# Altium schematic symbol library Schlib1.SchLib: 10 symbols
Pins are listed as number, name and electrical type; pins without a type are passive.

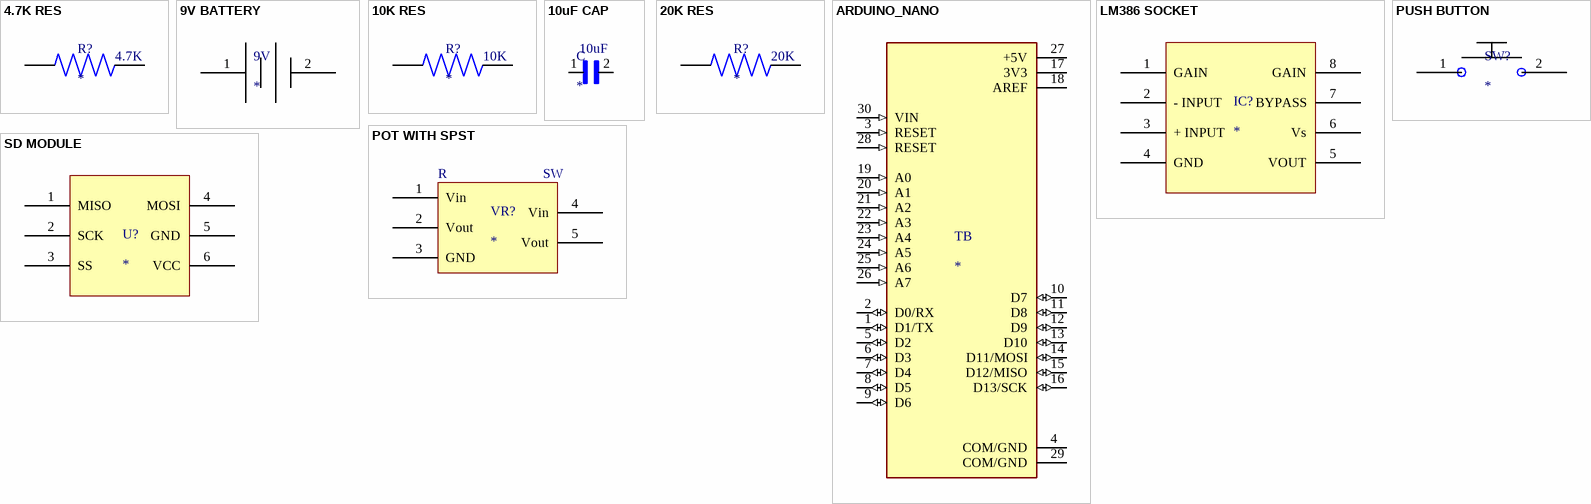
[diagram p0: symbols 4.7K RES to SD MODULE]

## 4.7K RES
designator R?
MP: RMCF1206FT4K70; Package: None; Price: None; Value: *; Availability: Unavailable
footprint 4.7K RES
pins: 1, 2
text: 4.7K

## 9V BATTERY
designator 9V
footprint 9V Battery; pin to pad 12>1 13>2
pins: 1, 2

## 10K RES
designator R?
10 kOhms Â±1% 0.25W, 1/4W Chip Resistor 1206 (3216 Metric) Automotive AEC-Q200 Thick Film; MP: RMCF1206FT10K0; MF: Stackpole Electronics Inc; Purchase-URL: https://pricing.snapeda.com/search/part/RMCF1206FT10K0/?ref=eda; SnapEDA_Link: https://www.snapeda.com/parts/RMCF1206FT10K0/Stackpole%20Electronics%20Inc/view-part/3955491/?ref=snap; Package: 3216 Stackpole; Check_prices: https://www.snapeda.com/parts/RMCF1206FT10K0/Stackpole%20Electronics%20Inc/view-part/3955491/?ref=eda; Digi-Key_Part_Number: RMCF1206FT10K0CT-ND; Value: *
footprint 10K RES
pins: 1, 2
text: 10K

## 10uF CAP
designator C
Lead Capacitor E(JIS) with Capacitance: 1000pF and Rated Voltage: 400Vac(r.m.s.); MP: DE2E3SA102MN3AY02F; MF: Murata; Package: Radial Murata; SnapEDA_Link: https://www.snapeda.com/parts/DE2E3SA102MN3AY02F/Murata/view-part/4546572/?ref=snap; Digi-Key_Part_Number: 490-16237-1-ND; Mouser-Purchase-URL: https://snapeda.com/shop?store=Mouser&id=4546572; Value: *
footprint 10uF CAP
pins: 1, 2
text: 10uF

## 20K RES
designator R?
MP: RMCF1206JT20K0; Package: None; Price: None; Value: *; Availability: Unavailable
footprint 20K RES
pins: 1, 2
text: 20K

## ARDUINO_NANO
designator TB
ATSAMD21G18A Arduino Nano 33 IoT SAM D ARMÂ® CortexÂ®-M0+ MCU 32-Bit Embedded Evaluation Board; MP: ARDUINO NANO; Package: None; Price: None; Availability: Unavailable; Value: *; MF: Arduino; SnapEDA_Link: https://www.snapeda.com/parts/ARDUINO%20NANO/Arduino/view-part/1128261/?ref=snap
footprint SHIELD_ARDUINO_NANO
pins: 1 D1/TX (io), 2 D0/RX (io), 3 RESET (in), 4 COM/GND (power), 5 D2 (io), 6 D3 (io), 7 D4 (io), 8 D5 (io), 9 D6 (io), 10 D7 (io), 11 D8 (io), 12 D9 (io), 13 D10 (io), 14 D11/MOSI (io), 15 D12/MISO (io), 16 D13/SCK (io), 17 3V3 (power), 18 AREF (power), 19 A0 (in), 20 A1 (in), 21 A2 (in), 22 A3 (in), 23 A4 (in), 24 A5 (in), 25 A6 (in), 26 A7 (in), 27 +5V (power), 28 RESET (in), 29 COM/GND (power), 30 VIN (in)

## LM386 SOCKET
designator IC?
8 pin IC socket for LM386
footprint LM386 SOCKET (8 pin socket for LM386)
pins: 1 GAIN, 2 - INPUT, 3 + INPUT, 4 GND, 5 VOUT, 6 Vs, 7 BYPASS, 8 GAIN

## POT WITH SPST
designator VR?
Potentiometer with SPST Switch
footprint POT WITH SPST
pins: 1 Vin, 2 Vout, 3 GND, 4 Vin, 5 Vout
text: R; SW

## PUSH BUTTON
designator SW?
Push Button
footprint Power
pins: 1, 2

## SD MODULE
designator U?
footprint SD MODULE
pins: 1 MISO, 2 SCK, 3 SS, 4 MOSI, 5 GND, 6 VCC